# Altium footprint library SER2918H-682KL - duplicate.PcbLib: 1 footprints
Each footprint in its own frame and in the unit in brackets; x right, y up, seen from the top. Pads: shape width x height; smd on the part's side, far side on the other; paste and mask are expansions set on the pad; w line width, h text height; cw(c..) or ccw(c..) is an arc to the next point about the centre after c.
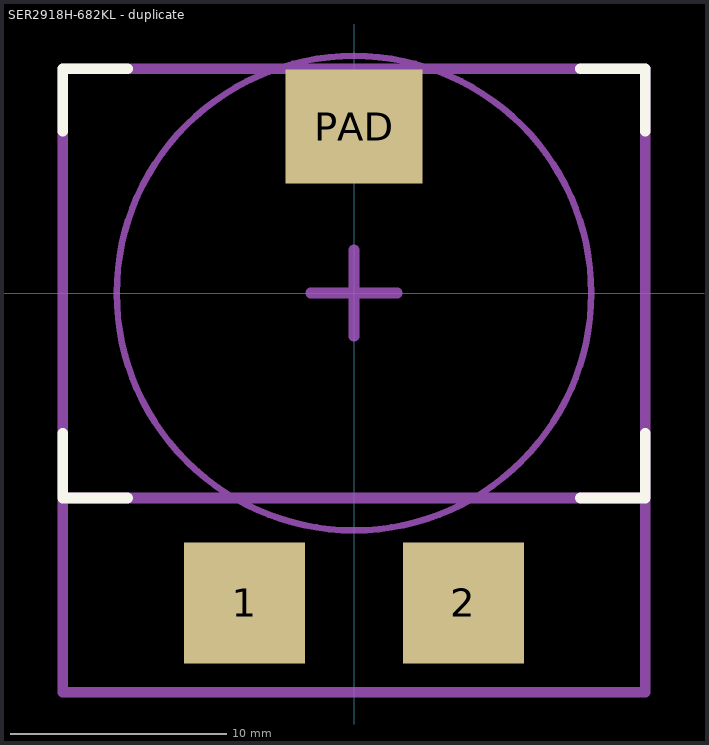
[diagram p0: the footprint, top view; thin cyan lines are the x and y axes]

## SER2918H-682KL - duplicate [mm] "COILCRAFT_ER2918H-682KL_17.78mm"
height 17.78
pads (3):
  rect 5.6x5.6 smd: 1(-5.075,-14.36) 2(5.075,-14.36)
  rect 6.35x5.28 smd: PAD(0,7.72)
Top Overlay:
  lines w0.5: -13.5,-6.5 -13.5,-9.5 -10.5,-9.5 ; -13.5,7.5 -13.5,10.4 -10.5,10.4 ; 10.5,-9.5 13.5,-9.5 13.5,-6.5 ; 13.5,7.5 13.5,10.4 ; 13.5,10.4 10.5,10.4 13.5,10.4
Mechanical 15:
  circle w0.3: c0,0 r11
  lines w0.5: -13.5,-9.4 -13.5,10.4 13.5,10.4 13.5,-9.4 13.5,-18.5 8.8,-18.5 -13.5,-18.5 -13.5,-9.5 13.5,-9.5 ; -2,0 2,0 ; 0,-2 0,2
3D body: height 17.78, standoff 0.7, extent -13.4,-9.5 13.4,10.3
3D body: height 1, standoff 0, extent -7.5,-16.9 -2.5,-9.5
3D body: height 1, standoff 0, extent 2.6,-16.9 7.6,-9.5